# Altium schematic symbol library ServoMotor.SchLib: 1 symbol
Pins are listed as number, name and electrical type; pins without a type are passive.

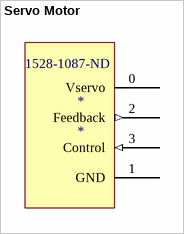
[diagram p0: symbol Servo Motor]

## Servo Motor
designator *  Supplier Part Number 1: 1528-1087-ND
Manufacturer: Adafruit Industries; Manufacturer Part Number: 1450; RoHS: Yes; Case/Package: Metal; Weight: 0.035lb; Termination: Wire Leads; Supplier 1: Digi-Key; Stock 1: 89; Pricing 1: 1 = 14.95000 (USD)
pins: 0 Vservo (power), 1 GND (power), 2 Feedback (out), 3 Control (in)